# Altium schematic symbol library SPaivachlib1.SchLib: 49 symbols
Pins are listed as number, name and electrical type; pins without a type are passive.

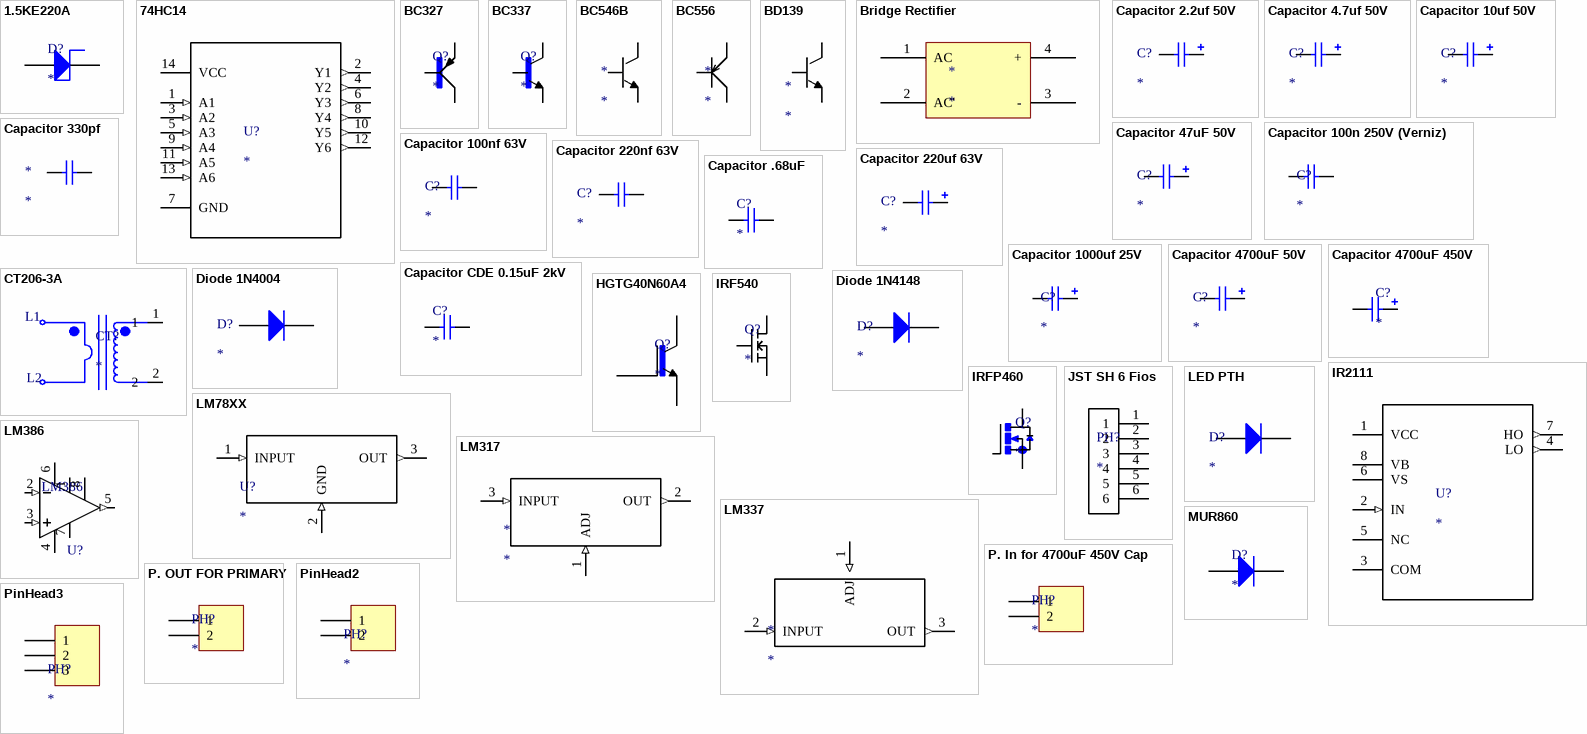
[diagram p0: symbols 1.5KE220A to PinHead3]

## 1.5KE220A
designator D?
footprint 1.5KE220A
pins: 1 A, 2 K

## 74HC14
designator U?
footprint 74HC14
pins: 1 A1 (in), 2 Y1 (out), 3 A2 (in), 4 Y2 (out), 5 A3 (in), 6 Y3 (out), 7 GND, 8 Y4 (out), 9 A4 (in), 10 Y5 (out), 11 A5 (in), 12 Y6 (out), 13 A6 (in), 14 VCC (power)

## BC327
designator Q?
footprint BC327
pins: B, C, E

## BC337
designator Q?
footprint BC337
pins: 1 E, 2 B, 3 C

## BC546B
designator *
footprint BC556
pins: 1 C, 2 B, 3 E

## BC556
designator *
footprint BC556
pins: 1 C, 2 B, 3 E

## BD139
designator *
footprint BD139
pins: 1 E, 2 C, 3 B

## Bridge Rectifier
designator *
pins: 1 AC, 2 AC', 3 -, 4 +

## Capacitor 2.2uf 50V
designator C?
footprint Capacitor Pol 2mm(80mils)
pins: 1, 2

## Capacitor 4.7uf 50V
designator C?
footprint Capacitor Pol 2mm(80mils)
pins: 1, 2

## Capacitor 10uf 50V
designator C?
footprint Capacitor Pol 2mm(80mils)
pins: 1, 2

## Capacitor 47uF 50V
designator C?
footprint Capacitor POL 2.2mm(100mil)
pins: 1, 2

## Capacitor 100n 250V (Verniz)
designator C?
footprint Capacitor 100n (cor verniz)
pins: 1, 2

## Capacitor 100nf 63V
designator C?
footprint Capacitor NPOL 5mm(200mils)
pins: 1, 2

## Capacitor 220nf 63V
designator C?
footprint Capacitor NPOL 5mm(200mils)
pins: 1, 2

## Capacitor 220uf 63V
designator C?
footprint Capacitor 220uf 63V
pins: 1, 2

## Capacitor 330pf
designator *
footprint Capacitor 3mm(120mils)
pins: 1, 2

## Capacitor 1000uf 25V
designator C?
footprint Capacitor 1000u 25V
pins: 1, 2

## Capacitor 4700uF 50V
designator C?
footprint Capacitor 8mm(315mils)
pins: 1, 2

## Capacitor 4700uF 450V
designator C?
footprint Capacitor 4700uF 450V RIFA
pins: 1, 2

## Capacitor .68uF
designator C?
footprint Capacitor .68uF
pins: 1, 2

## Capacitor CDE 0.15uF 2kV
designator C?
footprint Capacitor CDE 0.15uF 2kV
pins: 1, 2

## CT206-3A
designator CT?
PTH Current Transformer
footprint CT206-3A
pins: 1, 2
text: L1; L2

## Diode 1N4004
designator D?
footprint Diode 0.4
pins: A, K

## Diode 1N4148
designator D?
footprint Diode 8.89mm(350mils)
pins: A, K

## HGTG40N60A4
designator Q?
footprint HGTG40N60A4
pins: 1 G, 2 C, 3 E

## IR2111
designator U?
footprint DIP8
pins: 1 VCC (power), 2 IN (in), 3 COM, 4 LO (out), 5 NC, 6 VS (power), 7 HO (out), 8 VB (power)

## IRF540
designator Q?
footprint IRF540
pins: 1 G, 2 D, 3 S

## IRFP460
designator Q?
footprint IRFP460
pins: D, G, S

## JST SH 6 Fios
designator PH?
footprint JST SH 6 Fios
pins: 1, 2, 3, 4, 5, 6

## LED PTH
designator D?
footprint LED PTH
pins: 1 A, 2 K

## LM78XX
designator U?
footprint LM317/337
pins: 1 INPUT (in), 2 GND (in), 3 OUT (out)

## LM317
designator *
footprint LM317/337
pins: 1 ADJ (in), 2 OUT (out), 3 INPUT (in)

## LM337
designator *
footprint LM317/337
pins: 1 ADJ (in), 2 INPUT (in), 3 OUT (out)

## LM386
designator U?
LM386 Low Voltage Audio Power Amplifier (8-Pin DIP). More details: Let this power amplifier cater to your low voltage...; MF: RadioShack; Package: DIP-8 RadioShack; Price: None; MP: LM386; Availability: Unavailable; Value: *
footprint LM386(DIP08)
pins: 1 GAIN@1 (io), 2 -IN (in), 3 +IN (in), 4 V- (power), 5 OUT (out), 6 V+ (power), 7 BP (io), 8 GAIN@8 (io)

## MUR860
designator D?
footprint MUR860
pins: 1 K, 3 A

## P. In for 4700uF 450V Cap
designator PH?
footprint P. In for 4700uF 450V Cap
pins: 1, 2

## P. OUT FOR PRIMARY
designator PH?
footprint P. OUT FOR PRIMARY
pins: 1, 2

## PinHead2
designator PH?
footprint PinHead2
pins: 1, 2

## PinHead3
designator PH?
footprint PINHEAD3
pins: 1, 2, 3

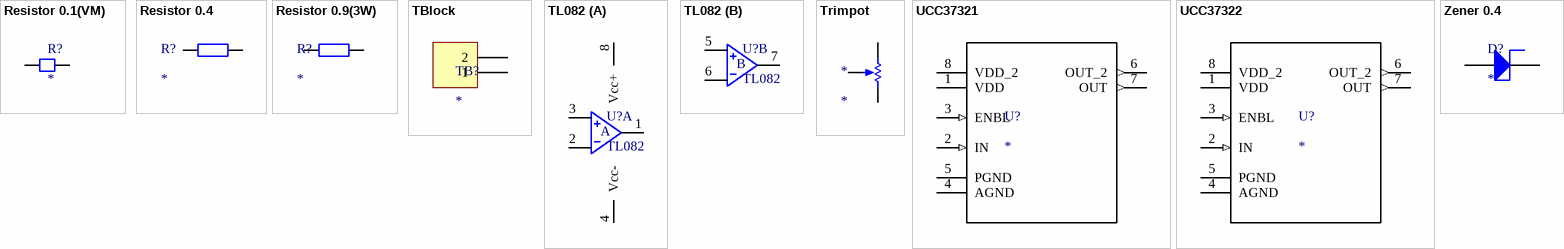
[diagram p1: symbols Resistor 0.1(VM) to Zener 0.4]

## Resistor 0.1(VM)
designator R?
footprint Resistor 0.1 Vertical M.
pins: 1, 2

## Resistor 0.4
designator R?
footprint Resistor Axial 0.4
pins: 1, 2

## Resistor 0.9(3W)
designator R?
footprint Resistor Axial 0.9(3W)
pins: 1, 2

## TBlock
designator TB?
footprint TBlock
pins: 1, 2

## TL082
designator U?
Dual Operational Amplifier
footprint DIP8
part A pins: 1 O1, 2 IN1-, 3 IN1+, 4 Vcc- (power), 8 Vcc+ (power)
part B pins: 5 IN2+, 6 IN2-, 7 O2
part A text: A
part B text: B

## Trimpot
designator *
footprint TRIMPOT
pins: 1 TOP, 2 TAP, 3 BOT

## UCC37321
designator U?
footprint UCC37322/21
pins: 1 VDD (power), 2 IN (in), 3 ENBL (in), 4 AGND, 5 PGND, 6 OUT_2 (out), 7 OUT (out), 8 VDD_2 (power)

## UCC37322
designator U?
footprint UCC37322/21
pins: 1 VDD (power), 2 IN (in), 3 ENBL (in), 4 AGND, 5 PGND, 6 OUT_2 (out), 7 OUT (out), 8 VDD_2 (power)

## Zener 0.4
designator D?
footprint Diode 0.4
pins: A, K